# Altium integrated library TI Amplifiers and Linear Operational Amplifier High Speed.IntLib: 1100 symbols (part 9 of 44)
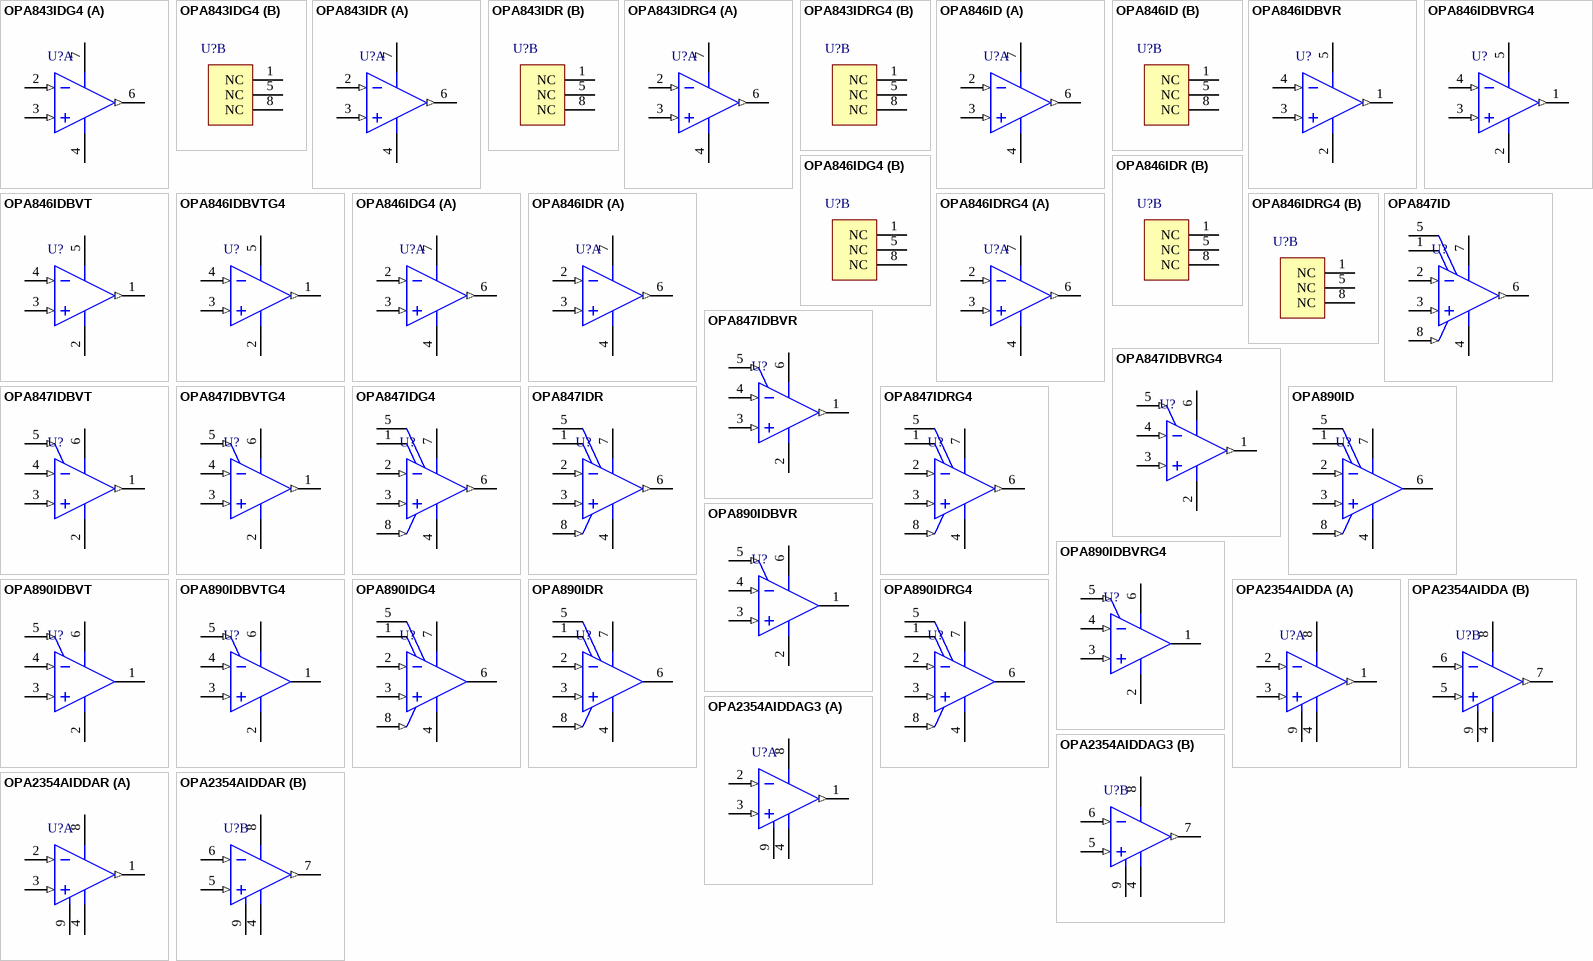
[diagram p59: symbols OPA843IDG4 to OPA2354AIDDAR]

## OPA2354AIDDAG3
designator U?
250 MHz, Rail-to-Rail I/O, CMOS Dual Operational Amplifier, 2.7 to 5.5 V, -40 to 125 degC, 8-pin SOP (DDA8), Green (RoHS & no Sb/Br); Manufacturer: Texas Instruments; PartNumber: OPA2354AIDDAG3; 2nd Harmonic(dBc): 75; 3rd Harmonic(dBc): 83; @ MHz: 1; BW @ Acl(MHz): 250; Diff Gain(%): 0.02; Diff Phase(deg): 0.09; Iib(Max)(nA): 0.05; Io(Typ)(mA): 100; Iq per channel(Max)(mA): 7.5; Number of Channels: 2; Rail-Rail: In, Out; Settling Time (0.1%)(Typ)(ns): 30; Slew Rate(Typ)(V/us): 150; Sub Family: High Output Current Amplifier (>=50mA), High Speed Amplifier (>=50MHz), Low Supply Voltage Amplifier (<=2.7V); THD (Fc is 1 MHz)(Typ)(dB): -73; Vio(Max)(mV): 8; Vn at Flatband(Typ)(nV/rtHz): 6.5; Vs(Max)(V): 5.5; Vs(Min)(V): 2.7; DatasheetVersion: SBOS233E; PackageVersion: 4202561/F, 12/2011; PackageReference: DDA8-1775X1775TP; PackageDescription: 8-Pin PowerPAD(TM) Plastic Small Outline, Body 4.9 x 3.9 mm, Pitch 1.27 mm; Supplier 1: Digi-Key; Supplier Part Number 1: OPA2354AIDDAG3-ND; Supplier 2: Mouser; Supplier Part Number 2: 595-OPA2354AIDDAG3; Acl, min stable gain(V/V): 1; Eco-Plan: Green (RoHS & no Sb/Br); Mounting Technology: Surface Mount; Code_JEDEC: MS-012; ComponentLink1Description: Manufacturer URL; ComponentLink1URL: http://www.ti.com/; ComponentLink2Description: Datasheet; ComponentLink2URL: http://www.ti.com/general/docs/lit/getliterature.tsp?genericPartNumber=OPA2354&fileType=pdf; ComponentLink3Description: Package Specification; ComponentLink3URL: http://www.ti.com/litv/pdf/mpds092e
footprint TI-DDA8-1775X1775TP_N (SOP, 8-Leads, Body 4.9x3.9mm, Pitch 1.27mm, Thermal Pad 1.775x1.775mm, IPC Medium Density)
footprint TI-DDA8-1775X1775TP_L (SOP, 8-Leads, Body 4.9x3.9mm, Pitch 1.27mm, Thermal Pad 1.775x1.775mm, IPC High Density)
footprint TI-DDA8-1775X1775TP_M (SOP, 8-Leads, Body 4.9x3.9mm, Pitch 1.27mm, Thermal Pad 1.775x1.775mm, IPC Low Density)
pins on every part: 4 V- (power), 8 V+ (power), 9 EP (power)
part A pins: 1 OUT A (out), 2 IN A- (in), 3 IN A+ (in)
part B pins: 5 IN B+ (in), 6 IN B- (in), 7 OUT B (out)

## OPA2354AIDDAR
designator U?
250 MHz, Rail-to-Rail I/O, CMOS Dual Operational Amplifier, 2.7 to 5.5 V, -40 to 125 degC, 8-pin SOP (DDA8), Green (RoHS & no Sb/Br); Manufacturer: Texas Instruments; PartNumber: OPA2354AIDDAR; 2nd Harmonic(dBc): 75; 3rd Harmonic(dBc): 83; @ MHz: 1; BW @ Acl(MHz): 250; Diff Gain(%): 0.02; Diff Phase(deg): 0.09; Iib(Max)(nA): 0.05; Io(Typ)(mA): 100; Iq per channel(Max)(mA): 7.5; Number of Channels: 2; Rail-Rail: In, Out; Settling Time (0.1%)(Typ)(ns): 30; Slew Rate(Typ)(V/us): 150; Sub Family: High Output Current Amplifier (>=50mA), High Speed Amplifier (>=50MHz), Low Supply Voltage Amplifier (<=2.7V); THD (Fc is 1 MHz)(Typ)(dB): -73; Vio(Max)(mV): 8; Vn at Flatband(Typ)(nV/rtHz): 6.5; Vs(Max)(V): 5.5; Vs(Min)(V): 2.7; DatasheetVersion: SBOS233E; PackageVersion: 4202561/F, 12/2011; PackageReference: DDA8-1775X1775TP; PackageDescription: 8-Pin PowerPAD(TM) Plastic Small Outline, Body 4.9 x 3.9 mm, Pitch 1.27 mm; Supplier 1: Digi-Key; Supplier Part Number 1: OPA2354AIDDAR-ND; Supplier 2: Mouser; Supplier Part Number 2: 595-OPA2354AIDDAR; Acl, min stable gain(V/V): 1; Eco-Plan: Green (RoHS & no Sb/Br); Mounting Technology: Surface Mount; Code_JEDEC: MS-012; ComponentLink1Description: Manufacturer URL; ComponentLink1URL: http://www.ti.com/; ComponentLink2Description: Datasheet; ComponentLink2URL: http://www.ti.com/general/docs/lit/getliterature.tsp?genericPartNumber=OPA2354&fileType=pdf; ComponentLink3Description: Package Specification; ComponentLink3URL: http://www.ti.com/litv/pdf/mpds092e
footprint TI-DDA8-1775X1775TP_N (SOP, 8-Leads, Body 4.9x3.9mm, Pitch 1.27mm, Thermal Pad 1.775x1.775mm, IPC Medium Density)
footprint TI-DDA8-1775X1775TP_L (SOP, 8-Leads, Body 4.9x3.9mm, Pitch 1.27mm, Thermal Pad 1.775x1.775mm, IPC High Density)
footprint TI-DDA8-1775X1775TP_M (SOP, 8-Leads, Body 4.9x3.9mm, Pitch 1.27mm, Thermal Pad 1.775x1.775mm, IPC Low Density)
pins on every part: 4 V- (power), 8 V+ (power), 9 EP (power)
part A pins: 1 OUT A (out), 2 IN A- (in), 3 IN A+ (in)
part B pins: 5 IN B+ (in), 6 IN B- (in), 7 OUT B (out)

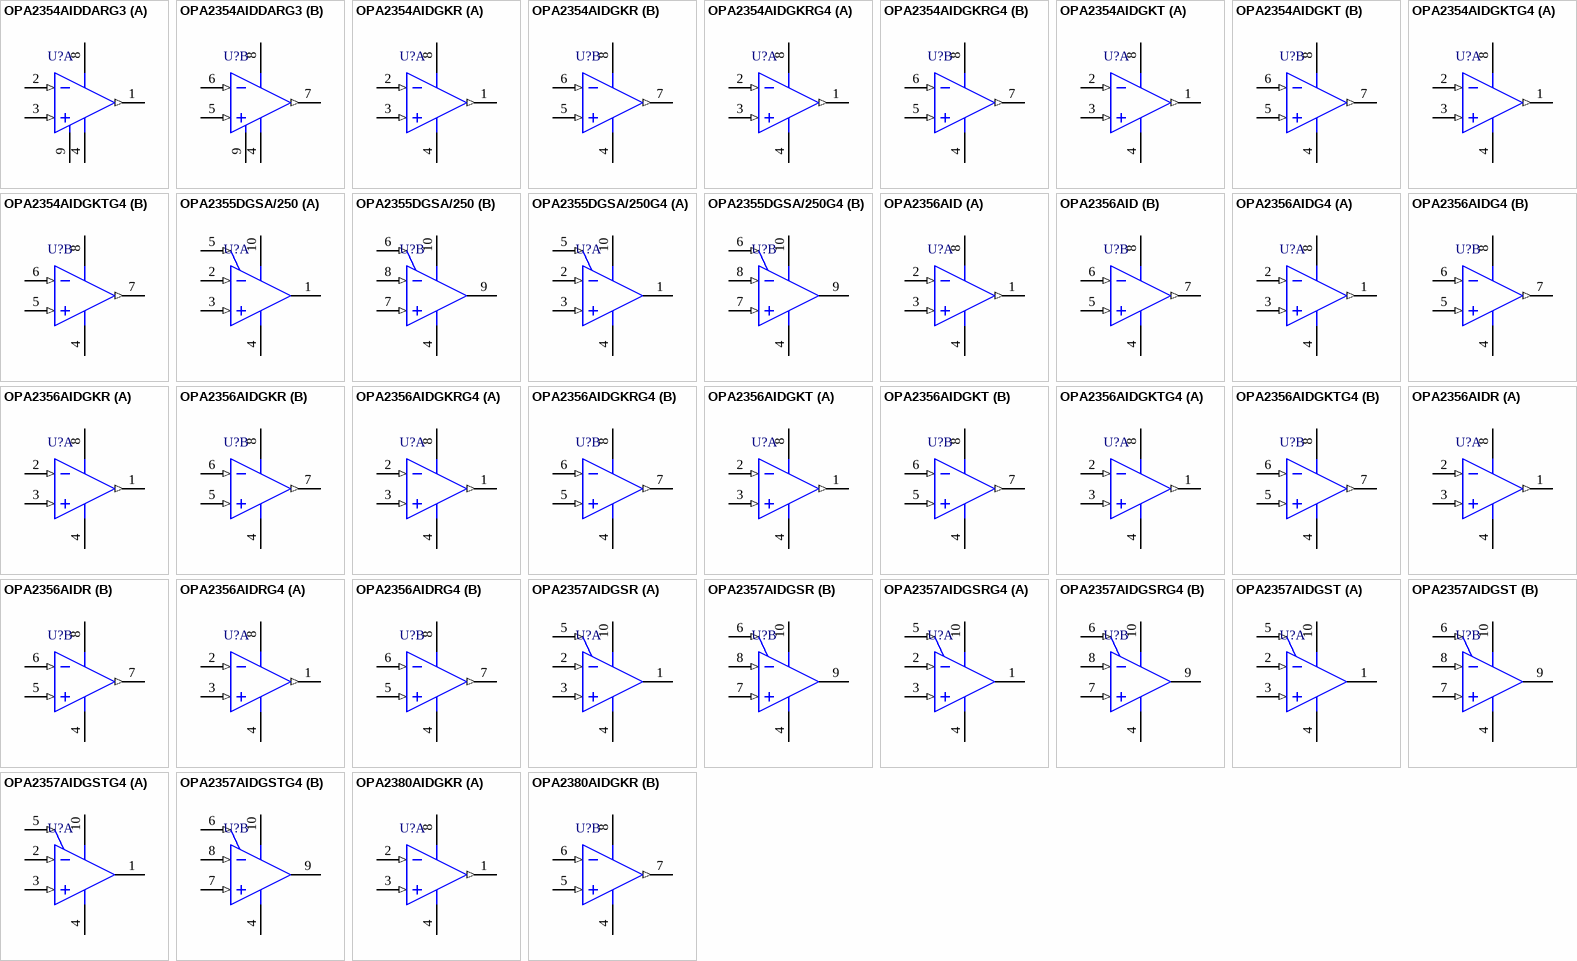
[diagram p7: symbols OPA2354AIDDARG3 to OPA2380AIDGKR]

## OPA2354AIDDARG3
designator U?
250 MHz, Rail-to-Rail I/O, CMOS Dual Operational Amplifier, 2.7 to 5.5 V, -40 to 125 degC, 8-pin SOP (DDA8), Green (RoHS & no Sb/Br); Manufacturer: Texas Instruments; PartNumber: OPA2354AIDDARG3; 2nd Harmonic(dBc): 75; 3rd Harmonic(dBc): 83; @ MHz: 1; BW @ Acl(MHz): 250; Diff Gain(%): 0.02; Diff Phase(deg): 0.09; Iib(Max)(nA): 0.05; Io(Typ)(mA): 100; Iq per channel(Max)(mA): 7.5; Number of Channels: 2; Rail-Rail: In, Out; Settling Time (0.1%)(Typ)(ns): 30; Slew Rate(Typ)(V/us): 150; Sub Family: High Output Current Amplifier (>=50mA), High Speed Amplifier (>=50MHz), Low Supply Voltage Amplifier (<=2.7V); THD (Fc is 1 MHz)(Typ)(dB): -73; Vio(Max)(mV): 8; Vn at Flatband(Typ)(nV/rtHz): 6.5; Vs(Max)(V): 5.5; Vs(Min)(V): 2.7; DatasheetVersion: SBOS233E; PackageVersion: 4202561/F, 12/2011; PackageReference: DDA8-1775X1775TP; PackageDescription: 8-Pin PowerPAD(TM) Plastic Small Outline, Body 4.9 x 3.9 mm, Pitch 1.27 mm; Supplier 1: Digi-Key; Supplier Part Number 1: OPA2354AIDDARG3-ND; Supplier 2: Mouser; Supplier Part Number 2: 595-OPA2354AIDDARG3; Acl, min stable gain(V/V): 1; Eco-Plan: Green (RoHS & no Sb/Br); Mounting Technology: Surface Mount; Code_JEDEC: MS-012; ComponentLink1Description: Manufacturer URL; ComponentLink1URL: http://www.ti.com/; ComponentLink2Description: Datasheet; ComponentLink2URL: http://www.ti.com/general/docs/lit/getliterature.tsp?genericPartNumber=OPA2354&fileType=pdf; ComponentLink3Description: Package Specification; ComponentLink3URL: http://www.ti.com/litv/pdf/mpds092e
footprint TI-DDA8-1775X1775TP_N (SOP, 8-Leads, Body 4.9x3.9mm, Pitch 1.27mm, Thermal Pad 1.775x1.775mm, IPC Medium Density)
footprint TI-DDA8-1775X1775TP_L (SOP, 8-Leads, Body 4.9x3.9mm, Pitch 1.27mm, Thermal Pad 1.775x1.775mm, IPC High Density)
footprint TI-DDA8-1775X1775TP_M (SOP, 8-Leads, Body 4.9x3.9mm, Pitch 1.27mm, Thermal Pad 1.775x1.775mm, IPC Low Density)
pins on every part: 4 V- (power), 8 V+ (power), 9 EP (power)
part A pins: 1 OUT A (out), 2 IN A- (in), 3 IN A+ (in)
part B pins: 5 IN B+ (in), 6 IN B- (in), 7 OUT B (out)

## OPA2354AIDGKR
designator U?
250 MHz, Rail-to-Rail I/O, CMOS Dual Operational Amplifier, 2.7 to 5.5 V, -40 to 125 degC, 8-pin SOP (DGK8), Green (RoHS & no Sb/Br); Manufacturer: Texas Instruments; PartNumber: OPA2354AIDGKR; 2nd Harmonic(dBc): 75; 3rd Harmonic(dBc): 83; @ MHz: 1; BW @ Acl(MHz): 250; Diff Gain(%): 0.02; Diff Phase(deg): 0.09; Iib(Max)(nA): 0.05; Io(Typ)(mA): 100; Iq per channel(Max)(mA): 7.5; Number of Channels: 2; Rail-Rail: In, Out; Settling Time (0.1%)(Typ)(ns): 30; Slew Rate(Typ)(V/us): 150; Sub Family: High Output Current Amplifier (>=50mA), High Speed Amplifier (>=50MHz), Low Supply Voltage Amplifier (<=2.7V); THD (Fc is 1 MHz)(Typ)(dB): -73; Vio(Max)(mV): 8; Vn at Flatband(Typ)(nV/rtHz): 6.5; Vs(Max)(V): 5.5; Vs(Min)(V): 2.7; DatasheetVersion: SBOS233E; PackageVersion: 4073329/E, 05/2006; PackageReference: DGK8; PackageDescription: 8-Pin Thin Small Outline, Body 3 x 3 mm, Pitch 0.65 mm; Supplier 1: Digi-Key; Supplier Part Number 1: 296-12642-2-ND; Supplier 2: Digi-Key; Supplier Part Number 2: 296-12642-1-ND; Supplier 3: Digi-Key; Supplier Part Number 3: 296-12642-6-ND; Supplier 4: Newark; Supplier Part Number 4: 86W6062; Supplier 5: Newark; Supplier Part Number 5: 75C4736; Supplier 6: Mouser; Supplier Part Number 6: 595-OPA2354AIDGKR; Acl, min stable gain(V/V): 1; Eco-Plan: Green (RoHS & no Sb/Br); Mounting Technology: Surface Mount; Code_JEDEC: MO-187; ComponentLink1Description: Manufacturer URL; ComponentLink1URL: http://www.ti.com/; ComponentLink2Description: Datasheet; ComponentLink2URL: http://www.ti.com/general/docs/lit/getliterature.tsp?genericPartNumber=OPA2354&fileType=pdf; ComponentLink3Description: Package Specification; ComponentLink3URL: http://www.ti.com/litv/pdf/mpds028d
footprint TI-DGK8_N (SOP, 8-Leads, Body 3x3mm, Pitch 0.65mm, IPC Medium Density)
footprint TI-DGK8_L (SOP, 8-Leads, Body 3x3mm, Pitch 0.65mm, IPC High Density)
footprint TI-DGK8_M (SOP, 8-Leads, Body 3x3mm, Pitch 0.65mm, IPC Low Density)
pins on every part: 4 V- (power), 8 V+ (power)
part A pins: 1 OUT A (out), 2 IN A- (in), 3 IN A+ (in)
part B pins: 5 IN B+ (in), 6 IN B- (in), 7 OUT B (out)

## OPA2354AIDGKRG4
designator U?
250 MHz, Rail-to-Rail I/O, CMOS Dual Operational Amplifier, 2.7 to 5.5 V, -40 to 125 degC, 8-pin SOP (DGK8), Green (RoHS & no Sb/Br); Manufacturer: Texas Instruments; PartNumber: OPA2354AIDGKRG4; 2nd Harmonic(dBc): 75; 3rd Harmonic(dBc): 83; @ MHz: 1; BW @ Acl(MHz): 250; Diff Gain(%): 0.02; Diff Phase(deg): 0.09; Iib(Max)(nA): 0.05; Io(Typ)(mA): 100; Iq per channel(Max)(mA): 7.5; Number of Channels: 2; Rail-Rail: In, Out; Settling Time (0.1%)(Typ)(ns): 30; Slew Rate(Typ)(V/us): 150; Sub Family: High Output Current Amplifier (>=50mA), High Speed Amplifier (>=50MHz), Low Supply Voltage Amplifier (<=2.7V); THD (Fc is 1 MHz)(Typ)(dB): -73; Vio(Max)(mV): 8; Vn at Flatband(Typ)(nV/rtHz): 6.5; Vs(Max)(V): 5.5; Vs(Min)(V): 2.7; DatasheetVersion: SBOS233E; PackageVersion: 4073329/E, 05/2006; PackageReference: DGK8; PackageDescription: 8-Pin Thin Small Outline, Body 3 x 3 mm, Pitch 0.65 mm; Supplier 1: Digi-Key; Supplier Part Number 1: OPA2354AIDGKRG4-ND; Supplier 2: Mouser; Supplier Part Number 2: 595-OPA2354AIDGKRG4; Acl, min stable gain(V/V): 1; Eco-Plan: Green (RoHS & no Sb/Br); Mounting Technology: Surface Mount; Code_JEDEC: MO-187; ComponentLink1Description: Manufacturer URL; ComponentLink1URL: http://www.ti.com/; ComponentLink2Description: Datasheet; ComponentLink2URL: http://www.ti.com/general/docs/lit/getliterature.tsp?genericPartNumber=OPA2354&fileType=pdf; ComponentLink3Description: Package Specification; ComponentLink3URL: http://www.ti.com/litv/pdf/mpds028d
footprint TI-DGK8_N (SOP, 8-Leads, Body 3x3mm, Pitch 0.65mm, IPC Medium Density)
footprint TI-DGK8_L (SOP, 8-Leads, Body 3x3mm, Pitch 0.65mm, IPC High Density)
footprint TI-DGK8_M (SOP, 8-Leads, Body 3x3mm, Pitch 0.65mm, IPC Low Density)
pins on every part: 4 V- (power), 8 V+ (power)
part A pins: 1 OUT A (out), 2 IN A- (in), 3 IN A+ (in)
part B pins: 5 IN B+ (in), 6 IN B- (in), 7 OUT B (out)

## OPA2354AIDGKT
designator U?
250 MHz, Rail-to-Rail I/O, CMOS Dual Operational Amplifier, 2.7 to 5.5 V, -40 to 125 degC, 8-pin SOP (DGK8), Green (RoHS & no Sb/Br); Manufacturer: Texas Instruments; PartNumber: OPA2354AIDGKT; 2nd Harmonic(dBc): 75; 3rd Harmonic(dBc): 83; @ MHz: 1; BW @ Acl(MHz): 250; Diff Gain(%): 0.02; Diff Phase(deg): 0.09; Iib(Max)(nA): 0.05; Io(Typ)(mA): 100; Iq per channel(Max)(mA): 7.5; Number of Channels: 2; Rail-Rail: In, Out; Settling Time (0.1%)(Typ)(ns): 30; Slew Rate(Typ)(V/us): 150; Sub Family: High Output Current Amplifier (>=50mA), High Speed Amplifier (>=50MHz), Low Supply Voltage Amplifier (<=2.7V); THD (Fc is 1 MHz)(Typ)(dB): -73; Vio(Max)(mV): 8; Vn at Flatband(Typ)(nV/rtHz): 6.5; Vs(Max)(V): 5.5; Vs(Min)(V): 2.7; DatasheetVersion: SBOS233E; PackageVersion: 4073329/E, 05/2006; PackageReference: DGK8; PackageDescription: 8-Pin Thin Small Outline, Body 3 x 3 mm, Pitch 0.65 mm; Supplier 1: Digi-Key; Supplier Part Number 1: 296-26260-2-ND; Supplier 2: Digi-Key; Supplier Part Number 2: 296-26260-1-ND; Supplier 3: Digi-Key; Supplier Part Number 3: 296-26260-6-ND; Supplier 4: Farnell; Supplier Part Number 4: 2075433; Supplier 5: Newark; Supplier Part Number 5: 82T3133; Supplier 6: Newark; Supplier Part Number 6: 75C4737; Supplier 7: Mouser; Supplier Part Number 7: 595-OPA2354AIDGKT; Acl, min stable gain(V/V): 1; Eco-Plan: Green (RoHS & no Sb/Br); Mounting Technology: Surface Mount; Code_JEDEC: MO-187; ComponentLink1Description: Manufacturer URL; ComponentLink1URL: http://www.ti.com/; ComponentLink2Description: Datasheet; ComponentLink2URL: http://www.ti.com/general/docs/lit/getliterature.tsp?genericPartNumber=OPA2354&fileType=pdf; ComponentLink3Description: Package Specification; ComponentLink3URL: http://www.ti.com/litv/pdf/mpds028d
footprint TI-DGK8_N (SOP, 8-Leads, Body 3x3mm, Pitch 0.65mm, IPC Medium Density)
footprint TI-DGK8_L (SOP, 8-Leads, Body 3x3mm, Pitch 0.65mm, IPC High Density)
footprint TI-DGK8_M (SOP, 8-Leads, Body 3x3mm, Pitch 0.65mm, IPC Low Density)
pins on every part: 4 V- (power), 8 V+ (power)
part A pins: 1 OUT A (out), 2 IN A- (in), 3 IN A+ (in)
part B pins: 5 IN B+ (in), 6 IN B- (in), 7 OUT B (out)

## OPA2354AIDGKTG4
designator U?
250 MHz, Rail-to-Rail I/O, CMOS Dual Operational Amplifier, 2.7 to 5.5 V, -40 to 125 degC, 8-pin SOP (DGK8), Green (RoHS & no Sb/Br); Manufacturer: Texas Instruments; PartNumber: OPA2354AIDGKTG4; 2nd Harmonic(dBc): 75; 3rd Harmonic(dBc): 83; @ MHz: 1; BW @ Acl(MHz): 250; Diff Gain(%): 0.02; Diff Phase(deg): 0.09; Iib(Max)(nA): 0.05; Io(Typ)(mA): 100; Iq per channel(Max)(mA): 7.5; Number of Channels: 2; Rail-Rail: In, Out; Settling Time (0.1%)(Typ)(ns): 30; Slew Rate(Typ)(V/us): 150; Sub Family: High Output Current Amplifier (>=50mA), High Speed Amplifier (>=50MHz), Low Supply Voltage Amplifier (<=2.7V); THD (Fc is 1 MHz)(Typ)(dB): -73; Vio(Max)(mV): 10; Vn at Flatband(Typ)(nV/rtHz): 6.5; Vs(Max)(V): 5.5; Vs(Min)(V): 2.7; DatasheetVersion: SBOS233E; PackageVersion: 4073329/E, 05/2006; PackageReference: DGK8; PackageDescription: 8-Pin Thin Small Outline, Body 3 x 3 mm, Pitch 0.65 mm; Supplier 1: Digi-Key; Supplier Part Number 1: OPA2354AIDGKTG4-ND; Supplier 2: Mouser; Supplier Part Number 2: 595-OPA2354AIDGKTG4; Acl, min stable gain(V/V): 1; Eco-Plan: Green (RoHS & no Sb/Br); Mounting Technology: Surface Mount; Code_JEDEC: MO-187; ComponentLink1Description: Manufacturer URL; ComponentLink1URL: http://www.ti.com/; ComponentLink2Description: Datasheet; ComponentLink2URL: http://www.ti.com/general/docs/lit/getliterature.tsp?genericPartNumber=OPA2354&fileType=pdf; ComponentLink3Description: Package Specification; ComponentLink3URL: http://www.ti.com/litv/pdf/mpds028d
footprint TI-DGK8_N (SOP, 8-Leads, Body 3x3mm, Pitch 0.65mm, IPC Medium Density)
footprint TI-DGK8_L (SOP, 8-Leads, Body 3x3mm, Pitch 0.65mm, IPC High Density)
footprint TI-DGK8_M (SOP, 8-Leads, Body 3x3mm, Pitch 0.65mm, IPC Low Density)
pins on every part: 4 V- (power), 8 V+ (power)
part A pins: 1 OUT A (out), 2 IN A- (in), 3 IN A+ (in)
part B pins: 5 IN B+ (in), 6 IN B- (in), 7 OUT B (out)

## OPA2355DGSA/250
designator U?
200 MHz GBW, CMOS Dual Operational Amplifier, 2.7 to 5.5 V, -40 to 125 degC, 10-pin SOP (DGS10), Green (RoHS & no Sb/Br); Manufacturer: Texas Instruments; PartNumber: OPA2355DGSA/250; 2nd Harmonic(dBc): 81; 3rd Harmonic(dBc): 93; @ MHz: 1; BW @ Acl(MHz): 450; Diff Gain(%): 0.02; Diff Phase(deg): 0.05; Io(Typ)(mA): 100; Iq per channel(Max)(mA): 14; Number of Channels: 2; Rail-Rail: Out; Settling Time (0.1%)(Typ)(ns): 30; Slew Rate(Typ)(V/us): 360; Sub Family: High Output Current Amplifier (>=50mA), High Speed Amplifier (>=50MHz), Low Supply Voltage Amplifier (<=2.7V); THD (Fc is 1 MHz)(Typ)(dB): -79; Vn at Flatband(Typ)(nV/rtHz): 5.8; Vs(Max)(V): 5.5; Vs(Min)(V): 2.7; DatasheetVersion: SBOS195D; PackageVersion: 4073272/C, 02/2004; PackageReference: DGS10; PackageDescription: 10-Pin Plastic Small Outline, Body 3 x 3 mm, Pitch 0.5 mm; Supplier 1: Digi-Key; Supplier Part Number 1: 296-12132-2-ND; Supplier 2: Digi-Key; Supplier Part Number 2: 296-12132-1-ND; Supplier 3: Digi-Key; Supplier Part Number 3: 296-12132-6-ND; Supplier 4: Newark; Supplier Part Number 4: 75C4739; Supplier 5: Mouser; Supplier Part Number 5: 595-OPA2355DGSA/250; Acl, min stable gain(V/V): 1; Eco-Plan: Green (RoHS & no Sb/Br); Iib(Max)(nA): 0.05; Vio(Max)(mV): 2; Mounting Technology: Surface Mount; Code_JEDEC: MO-153; ComponentLink1Description: Manufacturer URL; ComponentLink1URL: http://www.ti.com/; ComponentLink2Description: Datasheet; ComponentLink2URL: http://www.ti.com/general/docs/lit/getliterature.tsp?genericPartNumber=OPA2355&fileType=pdf; ComponentLink3Description: Package Specification; ComponentLink3URL: http://www.ti.com/lit/ml/mpds035b/mpds035b.pdf
footprint TI-DGS10_N (SOP, 10-Leads, Body 3x3mm, Pitch 0.5mm, IPC Medium Density)
footprint TI-DGS10_L (SOP, 10-Leads, Body 3x3mm, Pitch 0.5mm, IPC High Density)
footprint TI-DGS10_M (SOP, 10-Leads, Body 3x3mm, Pitch 0.5mm, IPC Low Density)
pins on every part: 4 V- (power), 10 V+ (power)
part A pins: 1 OUT A (hiz), 2 IN A- (in), 3 IN A+ (in), 5 ENABLE A (in)
part B pins: 6 ENABLE B (in), 7 IN B+ (in), 8 IN B- (in), 9 OUT B (hiz)

## OPA2355DGSA/250G4
designator U?
200 MHz GBW, CMOS Dual Operational Amplifier, 2.7 to 5.5 V, -40 to 125 degC, 10-pin SOP (DGS10), Green (RoHS & no Sb/Br); Manufacturer: Texas Instruments; PartNumber: OPA2355DGSA/250G4; 2nd Harmonic(dBc): 81; 3rd Harmonic(dBc): 93; @ MHz: 1; BW @ Acl(MHz): 450; Diff Gain(%): 0.02; Diff Phase(deg): 0.05; Io(Typ)(mA): 100; Iq per channel(Max)(mA): 14; Number of Channels: 2; Rail-Rail: In, Out; Settling Time (0.1%)(Typ)(ns): 30; Slew Rate(Typ)(V/us): 360; Sub Family: High Output Current Amplifier (>=50mA), High Speed Amplifier (>=50MHz), Low Supply Voltage Amplifier (<=2.7V); THD (Fc is 1 MHz)(Typ)(dB): -79; Vio(Max)(mV): 15; Vn at Flatband(Typ)(nV/rtHz): 5.8; Vs(Max)(V): 5.5; Vs(Min)(V): 2.7; DatasheetVersion: SBOS195D; PackageVersion: 4073272/C, 02/2004; PackageReference: DGS10; PackageDescription: 10-Pin Plastic Small Outline, Body 3 x 3 mm, Pitch 0.5 mm; Supplier 1: Digi-Key; Supplier Part Number 1: OPA2355DGSA/250G4-ND; Supplier 2: Mouser; Supplier Part Number 2: 595-OPA2355DGSA/250G; Acl, min stable gain(V/V): 1; Eco-Plan: Green (RoHS & no Sb/Br); Iib(Max)(nA): 0.05; Mounting Technology: Surface Mount; Code_JEDEC: MO-153; ComponentLink1Description: Manufacturer URL; ComponentLink1URL: http://www.ti.com/; ComponentLink2Description: Datasheet; ComponentLink2URL: http://www.ti.com/general/docs/lit/getliterature.tsp?genericPartNumber=OPA2355&fileType=pdf; ComponentLink3Description: Package Specification; ComponentLink3URL: http://www.ti.com/lit/ml/mpds035b/mpds035b.pdf
footprint TI-DGS10_N (SOP, 10-Leads, Body 3x3mm, Pitch 0.5mm, IPC Medium Density)
footprint TI-DGS10_L (SOP, 10-Leads, Body 3x3mm, Pitch 0.5mm, IPC High Density)
footprint TI-DGS10_M (SOP, 10-Leads, Body 3x3mm, Pitch 0.5mm, IPC Low Density)
pins on every part: 4 V- (power), 10 V+ (power)
part A pins: 1 OUT A (hiz), 2 IN A- (in), 3 IN A+ (in), 5 ENABLE A (in)
part B pins: 6 ENABLE B (in), 7 IN B+ (in), 8 IN B- (in), 9 OUT B (hiz)

## OPA2356AID
designator U?
200 MHz GBW, CMOS Dual Operational Amplifier, 2.5 to 5.5 V, -40 to 125 degC, 8-pin SOIC (D8), Green (RoHS & no Sb/Br); Manufacturer: Texas Instruments; PartNumber: OPA2356AID; 2nd Harmonic(dBc): 81; 3rd Harmonic(dBc): 93; @ MHz: 1; BW @ Acl(MHz): 450; Diff Gain(%): 0.02; Diff Phase(deg): 0.05; Io(Typ)(mA): 100; Iq per channel(Max)(mA): 14; Number of Channels: 2; Rail-Rail: Out; Settling Time (0.1%)(Typ)(ns): 30; Slew Rate(Typ)(V/us): 360; Sub Family: High Output Current Amplifier (>=50mA), High Speed Amplifier (>=50MHz), Low Supply Voltage Amplifier (<=2.7V); THD (Fc is 1 MHz)(Typ)(dB): -79; Vio(Max)(mV): 9; Vn at Flatband(Typ)(nV/rtHz): 5.8; Vs(Max)(V): 5.5; Vs(Min)(V): 2.5; DatasheetVersion: SBOS212A; PackageVersion: 4040047-3/M, 06/2011; PackageReference: D8; PackageDescription: 8-Pin Plastic Small Outline, Body 4.9 x 3.9 mm, Pitch 1.27 mm; Supplier 1: Digi-Key; Supplier Part Number 1: 296-12406-5-ND; Supplier 2: Farnell; Supplier Part Number 2: 1212445; Supplier 3: Newark; Supplier Part Number 3: 75C4740; Supplier 4: Mouser; Supplier Part Number 4: 595-OPA2356AID; Acl, min stable gain(V/V): 1; Eco-Plan: Green (RoHS & no Sb/Br); Iib(Max)(nA): 0.05; Mounting Technology: Surface Mount; Code_JEDEC: MS-012; ComponentLink1Description: Manufacturer URL; ComponentLink1URL: http://www.ti.com/; ComponentLink2Description: Datasheet; ComponentLink2URL: http://www.ti.com/general/docs/lit/getliterature.tsp?genericPartNumber=OPA2356&fileType=pdf; ComponentLink3Description: Package Specification; ComponentLink3URL: http://www.ti.com/litv/pdf/msoi002j
footprint TI-D8_N (SOIC, 8-Leads, Body 4.9x3.9mm, Pitch 1.27mm, IPC Medium Density)
footprint TI-D8_L (SOIC, 8-Leads, Body 4.9x3.9mm, Pitch 1.27mm, IPC High Density)
footprint TI-D8_M (SOIC, 8-Leads, Body 4.9x3.9mm, Pitch 1.27mm, IPC Low Density)
pins on every part: 4 V- (power), 8 V+ (power)
part A pins: 1 OUT A (out), 2 IN A- (in), 3 IN A+ (in)
part B pins: 5 IN B+ (in), 6 IN B- (in), 7 OUT B (out)

## OPA2356AIDG4
designator U?
200 MHz GBW, CMOS Dual Operational Amplifier, 2.5 to 5.5 V, -40 to 125 degC, 8-pin SOIC (D8), Green (RoHS & no Sb/Br); Manufacturer: Texas Instruments; PartNumber: OPA2356AIDG4; 2nd Harmonic(dBc): 81; 3rd Harmonic(dBc): 93; @ MHz: 1; BW @ Acl(MHz): 450; Diff Gain(%): 0.02; Diff Phase(deg): 0.05; Io(Typ)(mA): 100; Iq per channel(Max)(mA): 14; Number of Channels: 2; Rail-Rail: Out; Settling Time (0.1%)(Typ)(ns): 30; Slew Rate(Typ)(V/us): 360; Sub Family: High Output Current Amplifier (>=50mA), High Speed Amplifier (>=50MHz), Low Supply Voltage Amplifier (<=2.7V); THD (Fc is 1 MHz)(Typ)(dB): -79; Vio(Max)(mV): 9; Vn at Flatband(Typ)(nV/rtHz): 5.8; Vs(Max)(V): 5.5; Vs(Min)(V): 2.5; DatasheetVersion: SBOS212A; PackageVersion: 4040047-3/M, 06/2011; PackageReference: D8; PackageDescription: 8-Pin Plastic Small Outline, Body 4.9 x 3.9 mm, Pitch 1.27 mm; Supplier 1: Digi-Key; Supplier Part Number 1: OPA2356AIDG4-ND; Supplier 2: Newark; Supplier Part Number 2: 06M7530; Supplier 3: Mouser; Supplier Part Number 3: 595-OPA2356AIDG4; Acl, min stable gain(V/V): 1; Eco-Plan: Green (RoHS & no Sb/Br); Iib(Max)(nA): 0.05; Mounting Technology: Surface Mount; Code_JEDEC: MS-012; ComponentLink1Description: Manufacturer URL; ComponentLink1URL: http://www.ti.com/; ComponentLink2Description: Datasheet; ComponentLink2URL: http://www.ti.com/general/docs/lit/getliterature.tsp?genericPartNumber=OPA2356&fileType=pdf; ComponentLink3Description: Package Specification; ComponentLink3URL: http://www.ti.com/litv/pdf/msoi002j
footprint TI-D8_N (SOIC, 8-Leads, Body 4.9x3.9mm, Pitch 1.27mm, IPC Medium Density)
footprint TI-D8_L (SOIC, 8-Leads, Body 4.9x3.9mm, Pitch 1.27mm, IPC High Density)
footprint TI-D8_M (SOIC, 8-Leads, Body 4.9x3.9mm, Pitch 1.27mm, IPC Low Density)
pins on every part: 4 V- (power), 8 V+ (power)
part A pins: 1 OUT A (out), 2 IN A- (in), 3 IN A+ (in)
part B pins: 5 IN B+ (in), 6 IN B- (in), 7 OUT B (out)

## OPA2356AIDGKR
designator U?
200 MHz GBW, CMOS Dual Operational Amplifier, 2.5 to 5.5 V, -40 to 125 degC, 8-pin SOP (DGK8), Green (RoHS & no Sb/Br); Manufacturer: Texas Instruments; PartNumber: OPA2356AIDGKR; 2nd Harmonic(dBc): 81; 3rd Harmonic(dBc): 93; @ MHz: 1; BW @ Acl(MHz): 450; Diff Gain(%): 0.02; Diff Phase(deg): 0.05; Io(Typ)(mA): 100; Iq per channel(Max)(mA): 14; Number of Channels: 2; Rail-Rail: Out; Settling Time (0.1%)(Typ)(ns): 30; Slew Rate(Typ)(V/us): 360; Sub Family: High Output Current Amplifier (>=50mA), High Speed Amplifier (>=50MHz), Low Supply Voltage Amplifier (<=2.7V); THD (Fc is 1 MHz)(Typ)(dB): -79; Vio(Max)(mV): 9; Vn at Flatband(Typ)(nV/rtHz): 5.8; Vs(Max)(V): 5.5; Vs(Min)(V): 2.5; DatasheetVersion: SBOS212A; PackageVersion: 4073329/E, 05/2006; PackageReference: DGK8; PackageDescription: 8-Pin Thin Small Outline, Body 3 x 3 mm, Pitch 0.65 mm; Supplier 1: Digi-Key; Supplier Part Number 1: 296-31702-2-ND; Supplier 2: Digi-Key; Supplier Part Number 2: 296-31702-1-ND; Supplier 3: Digi-Key; Supplier Part Number 3: 296-31702-6-ND; Supplier 4: Newark; Supplier Part Number 4: 75C4741; Supplier 5: Mouser; Supplier Part Number 5: 595-OPA2356AIDGKR; Acl, min stable gain(V/V): 1; Eco-Plan: Green (RoHS & no Sb/Br); Iib(Max)(nA): 0.05; Mounting Technology: Surface Mount; Code_JEDEC: MO-187; ComponentLink1Description: Manufacturer URL; ComponentLink1URL: http://www.ti.com/; ComponentLink2Description: Datasheet; ComponentLink2URL: http://www.ti.com/general/docs/lit/getliterature.tsp?genericPartNumber=OPA2356&fileType=pdf; ComponentLink3Description: Package Specification; ComponentLink3URL: http://www.ti.com/litv/pdf/mpds028d
footprint TI-DGK8_N (SOP, 8-Leads, Body 3x3mm, Pitch 0.65mm, IPC Medium Density)
footprint TI-DGK8_L (SOP, 8-Leads, Body 3x3mm, Pitch 0.65mm, IPC High Density)
footprint TI-DGK8_M (SOP, 8-Leads, Body 3x3mm, Pitch 0.65mm, IPC Low Density)
pins on every part: 4 V- (power), 8 V+ (power)
part A pins: 1 OUT A (out), 2 IN A- (in), 3 IN A+ (in)
part B pins: 5 IN B+ (in), 6 IN B- (in), 7 OUT B (out)

## OPA2356AIDGKRG4
designator U?
200 MHz GBW, CMOS Dual Operational Amplifier, 2.5 to 5.5 V, -40 to 125 degC, 8-pin SOP (DGK8), Green (RoHS & no Sb/Br); Manufacturer: Texas Instruments; PartNumber: OPA2356AIDGKRG4; 2nd Harmonic(dBc): 81; 3rd Harmonic(dBc): 93; @ MHz: 1; BW @ Acl(MHz): 450; Diff Gain(%): 0.02; Diff Phase(deg): 0.05; Io(Typ)(mA): 100; Iq per channel(Max)(mA): 14; Number of Channels: 2; Rail-Rail: Out; Settling Time (0.1%)(Typ)(ns): 30; Slew Rate(Typ)(V/us): 360; Sub Family: High Output Current Amplifier (>=50mA), High Speed Amplifier (>=50MHz), Low Supply Voltage Amplifier (<=2.7V); THD (Fc is 1 MHz)(Typ)(dB): -79; Vio(Max)(mV): 9; Vn at Flatband(Typ)(nV/rtHz): 5.8; Vs(Max)(V): 5.5; Vs(Min)(V): 2.5; DatasheetVersion: SBOS212A; PackageVersion: 4073329/E, 05/2006; PackageReference: DGK8; PackageDescription: 8-Pin Thin Small Outline, Body 3 x 3 mm, Pitch 0.65 mm; Supplier 1: Digi-Key; Supplier Part Number 1: OPA2356AIDGKRG4-ND; Supplier 2: Mouser; Supplier Part Number 2: 595-OPA2356AIDGKRG4; Acl, min stable gain(V/V): 1; Eco-Plan: Green (RoHS & no Sb/Br); Iib(Max)(nA): 0.05; Mounting Technology: Surface Mount; Code_JEDEC: MO-187; ComponentLink1Description: Manufacturer URL; ComponentLink1URL: http://www.ti.com/; ComponentLink2Description: Datasheet; ComponentLink2URL: http://www.ti.com/general/docs/lit/getliterature.tsp?genericPartNumber=OPA2356&fileType=pdf; ComponentLink3Description: Package Specification; ComponentLink3URL: http://www.ti.com/litv/pdf/mpds028d
footprint TI-DGK8_N (SOP, 8-Leads, Body 3x3mm, Pitch 0.65mm, IPC Medium Density)
footprint TI-DGK8_L (SOP, 8-Leads, Body 3x3mm, Pitch 0.65mm, IPC High Density)
footprint TI-DGK8_M (SOP, 8-Leads, Body 3x3mm, Pitch 0.65mm, IPC Low Density)
pins on every part: 4 V- (power), 8 V+ (power)
part A pins: 1 OUT A (out), 2 IN A- (in), 3 IN A+ (in)
part B pins: 5 IN B+ (in), 6 IN B- (in), 7 OUT B (out)

## OPA2356AIDGKT
designator U?
200 MHz GBW, CMOS Dual Operational Amplifier, 2.5 to 5.5 V, -40 to 125 degC, 8-pin SOP (DGK8), Green (RoHS & no Sb/Br); Manufacturer: Texas Instruments; PartNumber: OPA2356AIDGKT; 2nd Harmonic(dBc): 81; 3rd Harmonic(dBc): 93; @ MHz: 1; BW @ Acl(MHz): 450; Diff Gain(%): 0.02; Diff Phase(deg): 0.05; Io(Typ)(mA): 100; Iq per channel(Max)(mA): 14; Number of Channels: 2; Rail-Rail: Out; Settling Time (0.1%)(Typ)(ns): 30; Slew Rate(Typ)(V/us): 360; Sub Family: High Output Current Amplifier (>=50mA), High Speed Amplifier (>=50MHz), Low Supply Voltage Amplifier (<=2.7V); THD (Fc is 1 MHz)(Typ)(dB): -79; Vio(Max)(mV): 9; Vn at Flatband(Typ)(nV/rtHz): 5.8; Vs(Max)(V): 5.5; Vs(Min)(V): 2.5; DatasheetVersion: SBOS212A; PackageVersion: 4073329/E, 05/2006; PackageReference: DGK8; PackageDescription: 8-Pin Thin Small Outline, Body 3 x 3 mm, Pitch 0.65 mm; Supplier 1: Digi-Key; Supplier Part Number 1: 296-19954-2-ND; Supplier 2: Digi-Key; Supplier Part Number 2: 296-19954-1-ND; Supplier 3: Digi-Key; Supplier Part Number 3: 296-19954-6-ND; Supplier 4: Newark; Supplier Part Number 4: 75C4742; Supplier 5: Mouser; Supplier Part Number 5: 595-OPA2356AIDGKT; Acl, min stable gain(V/V): 1; Eco-Plan: Green (RoHS & no Sb/Br); Iib(Max)(nA): 0.05; Mounting Technology: Surface Mount; Code_JEDEC: MO-187; ComponentLink1Description: Manufacturer URL; ComponentLink1URL: http://www.ti.com/; ComponentLink2Description: Datasheet; ComponentLink2URL: http://www.ti.com/general/docs/lit/getliterature.tsp?genericPartNumber=OPA2356&fileType=pdf; ComponentLink3Description: Package Specification; ComponentLink3URL: http://www.ti.com/litv/pdf/mpds028d
footprint TI-DGK8_N (SOP, 8-Leads, Body 3x3mm, Pitch 0.65mm, IPC Medium Density)
footprint TI-DGK8_L (SOP, 8-Leads, Body 3x3mm, Pitch 0.65mm, IPC High Density)
footprint TI-DGK8_M (SOP, 8-Leads, Body 3x3mm, Pitch 0.65mm, IPC Low Density)
pins on every part: 4 V- (power), 8 V+ (power)
part A pins: 1 OUT A (out), 2 IN A- (in), 3 IN A+ (in)
part B pins: 5 IN B+ (in), 6 IN B- (in), 7 OUT B (out)

## OPA2356AIDGKTG4
designator U?
200 MHz GBW, CMOS Dual Operational Amplifier, 2.5 to 5.5 V, -40 to 125 degC, 8-pin SOP (DGK8), Green (RoHS & no Sb/Br); Manufacturer: Texas Instruments; PartNumber: OPA2356AIDGKTG4; 2nd Harmonic(dBc): 81; 3rd Harmonic(dBc): 93; @ MHz: 1; BW @ Acl(MHz): 450; Diff Gain(%): 0.02; Diff Phase(deg): 0.05; Io(Typ)(mA): 100; Iq per channel(Max)(mA): 14; Number of Channels: 2; Rail-Rail: Out; Settling Time (0.1%)(Typ)(ns): 30; Slew Rate(Typ)(V/us): 360; Sub Family: High Output Current Amplifier (>=50mA), High Speed Amplifier (>=50MHz), Low Supply Voltage Amplifier (<=2.7V); THD (Fc is 1 MHz)(Typ)(dB): -79; Vio(Max)(mV): 9; Vn at Flatband(Typ)(nV/rtHz): 5.8; Vs(Max)(V): 5.5; Vs(Min)(V): 2.5; DatasheetVersion: SBOS212A; PackageVersion: 4073329/E, 05/2006; PackageReference: DGK8; PackageDescription: 8-Pin Thin Small Outline, Body 3 x 3 mm, Pitch 0.65 mm; Supplier 1: Digi-Key; Supplier Part Number 1: OPA2356AIDGKTG4-ND; Supplier 2: Mouser; Supplier Part Number 2: 595-OPA2356AIDGKTG4; Acl, min stable gain(V/V): 1; Eco-Plan: Green (RoHS & no Sb/Br); Iib(Max)(nA): 0.05; Mounting Technology: Surface Mount; Code_JEDEC: MO-187; ComponentLink1Description: Manufacturer URL; ComponentLink1URL: http://www.ti.com/; ComponentLink2Description: Datasheet; ComponentLink2URL: http://www.ti.com/general/docs/lit/getliterature.tsp?genericPartNumber=OPA2356&fileType=pdf; ComponentLink3Description: Package Specification; ComponentLink3URL: http://www.ti.com/litv/pdf/mpds028d
footprint TI-DGK8_N (SOP, 8-Leads, Body 3x3mm, Pitch 0.65mm, IPC Medium Density)
footprint TI-DGK8_L (SOP, 8-Leads, Body 3x3mm, Pitch 0.65mm, IPC High Density)
footprint TI-DGK8_M (SOP, 8-Leads, Body 3x3mm, Pitch 0.65mm, IPC Low Density)
pins on every part: 4 V- (power), 8 V+ (power)
part A pins: 1 OUT A (out), 2 IN A- (in), 3 IN A+ (in)
part B pins: 5 IN B+ (in), 6 IN B- (in), 7 OUT B (out)

## OPA2356AIDR
designator U?
200 MHz GBW, CMOS Dual Operational Amplifier, 2.5 to 5.5 V, -40 to 125 degC, 8-pin SOIC (D8), Green (RoHS & no Sb/Br); Manufacturer: Texas Instruments; PartNumber: OPA2356AIDR; 2nd Harmonic(dBc): 81; 3rd Harmonic(dBc): 93; @ MHz: 1; BW @ Acl(MHz): 450; Diff Gain(%): 0.02; Diff Phase(deg): 0.05; Io(Typ)(mA): 100; Iq per channel(Max)(mA): 14; Number of Channels: 2; Rail-Rail: Out; Settling Time (0.1%)(Typ)(ns): 30; Slew Rate(Typ)(V/us): 360; Sub Family: High Output Current Amplifier (>=50mA), High Speed Amplifier (>=50MHz), Low Supply Voltage Amplifier (<=2.7V); THD (Fc is 1 MHz)(Typ)(dB): -79; Vio(Max)(mV): 9; Vn at Flatband(Typ)(nV/rtHz): 5.8; Vs(Max)(V): 5.5; Vs(Min)(V): 2.5; DatasheetVersion: SBOS212A; PackageVersion: 4040047-3/M, 06/2011; PackageReference: D8; PackageDescription: 8-Pin Plastic Small Outline, Body 4.9 x 3.9 mm, Pitch 1.27 mm; Supplier 1: Digi-Key; Supplier Part Number 1: 296-31703-2-ND; Supplier 2: Digi-Key; Supplier Part Number 2: 296-31703-1-ND; Supplier 3: Digi-Key; Supplier Part Number 3: 296-31703-6-ND; Supplier 4: Newark; Supplier Part Number 4: 75C4743; Supplier 5: Mouser; Supplier Part Number 5: 595-OPA2356AIDR; Acl, min stable gain(V/V): 1; Eco-Plan: Green (RoHS & no Sb/Br); Iib(Max)(nA): 0.05; Mounting Technology: Surface Mount; Code_JEDEC: MS-012; ComponentLink1Description: Manufacturer URL; ComponentLink1URL: http://www.ti.com/; ComponentLink2Description: Datasheet; ComponentLink2URL: http://www.ti.com/general/docs/lit/getliterature.tsp?genericPartNumber=OPA2356&fileType=pdf; ComponentLink3Description: Package Specification; ComponentLink3URL: http://www.ti.com/litv/pdf/msoi002j
footprint TI-D8_N (SOIC, 8-Leads, Body 4.9x3.9mm, Pitch 1.27mm, IPC Medium Density)
footprint TI-D8_L (SOIC, 8-Leads, Body 4.9x3.9mm, Pitch 1.27mm, IPC High Density)
footprint TI-D8_M (SOIC, 8-Leads, Body 4.9x3.9mm, Pitch 1.27mm, IPC Low Density)
pins on every part: 4 V- (power), 8 V+ (power)
part A pins: 1 OUT A (out), 2 IN A- (in), 3 IN A+ (in)
part B pins: 5 IN B+ (in), 6 IN B- (in), 7 OUT B (out)

## OPA2356AIDRG4
designator U?
200 MHz GBW, CMOS Dual Operational Amplifier, 2.5 to 5.5 V, -40 to 125 degC, 8-pin SOIC (D8), Green (RoHS & no Sb/Br); Manufacturer: Texas Instruments; PartNumber: OPA2356AIDRG4; 2nd Harmonic(dBc): 81; 3rd Harmonic(dBc): 93; @ MHz: 1; BW @ Acl(MHz): 450; Diff Gain(%): 0.02; Diff Phase(deg): 0.05; Iib(Max)(nA): 20000; Io(Typ)(mA): 100; Iq per channel(Max)(mA): 14; Number of Channels: 2; Rail-Rail: In, Out; Settling Time (0.1%)(Typ)(ns): 30; Slew Rate(Typ)(V/us): 360; Sub Family: High Output Current Amplifier (>=50mA), High Speed Amplifier (>=50MHz), Low Supply Voltage Amplifier (<=2.7V); THD (Fc is 1 MHz)(Typ)(dB): -79; Vio(Max)(mV): 9; Vn at Flatband(Typ)(nV/rtHz): 5.8; Vs(Max)(V): 5.5; Vs(Min)(V): 2.5; DatasheetVersion: SBOS212A; PackageVersion: 4040047-3/M, 06/2011; PackageReference: D8; PackageDescription: 8-Pin Plastic Small Outline, Body 4.9 x 3.9 mm, Pitch 1.27 mm; Supplier 1: Digi-Key; Supplier Part Number 1: OPA2356AIDRG4-ND; Supplier 2: Newark; Supplier Part Number 2: 85K1338; Supplier 3: Mouser; Supplier Part Number 3: 595-OPA2356AIDRG4; Acl, min stable gain(V/V): 1; Eco-Plan: Green (RoHS & no Sb/Br); Mounting Technology: Surface Mount; Code_JEDEC: MS-012; ComponentLink1Description: Manufacturer URL; ComponentLink1URL: http://www.ti.com/; ComponentLink2Description: Datasheet; ComponentLink2URL: http://www.ti.com/general/docs/lit/getliterature.tsp?genericPartNumber=OPA2356&fileType=pdf; ComponentLink3Description: Package Specification; ComponentLink3URL: http://www.ti.com/litv/pdf/msoi002j
footprint TI-D8_N (SOIC, 8-Leads, Body 4.9x3.9mm, Pitch 1.27mm, IPC Medium Density)
footprint TI-D8_L (SOIC, 8-Leads, Body 4.9x3.9mm, Pitch 1.27mm, IPC High Density)
footprint TI-D8_M (SOIC, 8-Leads, Body 4.9x3.9mm, Pitch 1.27mm, IPC Low Density)
pins on every part: 4 V- (power), 8 V+ (power)
part A pins: 1 OUT A (out), 2 IN A- (in), 3 IN A+ (in)
part B pins: 5 IN B+ (in), 6 IN B- (in), 7 OUT B (out)

## OPA2357AIDGSR
designator U?
250 MHz, Rail-to-Rail I/O, Dual CMOS Operational Amplifier with Shutdown, 2.5 to 5.5 V, -40 to 125 degC, 10-pin SOP (DGS10), Green (RoHS & no Sb/Br); Manufacturer: Texas Instruments; PartNumber: OPA2357AIDGSR; 2nd Harmonic(dBc): 75; 3rd Harmonic(dBc): 83; @ MHz: 1; BW @ Acl(MHz): 250; Diff Gain(%): 0.02; Diff Phase(deg): 0.09; Iib(Max)(nA): 0.05; Io(Typ)(mA): 100; Iq per channel(Max)(mA): 7.5; Number of Channels: 2; Rail-Rail: In, Out; Settling Time (0.1%)(Typ)(ns): 30; Slew Rate(Typ)(V/us): 150; Sub Family: High Output Current Amplifier (>=50mA), High Speed Amplifier (>=50MHz), Low Supply Voltage Amplifier (<=2.7V); THD (Fc is 1 MHz)(Typ)(dB): -74; Vio(Max)(mV): 8; Vn at Flatband(Typ)(nV/rtHz): 6.5; Vs(Max)(V): 5.5; Vs(Min)(V): 2.5; DatasheetVersion: SBOS235E; PackageVersion: 4073272/C, 02/2004; PackageReference: DGS10; PackageDescription: 10-Pin Plastic Small Outline, Body 3 x 3 mm, Pitch 0.5 mm; Supplier 1: Digi-Key; Supplier Part Number 1: 296-26261-2-ND; Supplier 2: Digi-Key; Supplier Part Number 2: 296-26261-1-ND; Supplier 3: Digi-Key; Supplier Part Number 3: 296-26261-6-ND; Supplier 4: Newark; Supplier Part Number 4: 75C4744; Supplier 5: Mouser; Supplier Part Number 5: 595-OPA2357AIDGSR; Acl, min stable gain(V/V): 1; Eco-Plan: Green (RoHS & no Sb/Br); Mounting Technology: Surface Mount; Code_JEDEC: MO-153; ComponentLink1Description: Manufacturer URL; ComponentLink1URL: http://www.ti.com/; ComponentLink2Description: Datasheet; ComponentLink2URL: http://www.ti.com/general/docs/lit/getliterature.tsp?genericPartNumber=OPA2357&fileType=pdf; ComponentLink3Description: Package Specification; ComponentLink3URL: http://www.ti.com/lit/ml/mpds035b/mpds035b.pdf
footprint TI-DGS10_N (SOP, 10-Leads, Body 3x3mm, Pitch 0.5mm, IPC Medium Density)
footprint TI-DGS10_L (SOP, 10-Leads, Body 3x3mm, Pitch 0.5mm, IPC High Density)
footprint TI-DGS10_M (SOP, 10-Leads, Body 3x3mm, Pitch 0.5mm, IPC Low Density)
pins on every part: 4 V- (power), 10 V+ (power)
part A pins: 1 OUT A (hiz), 2 IN A- (in), 3 IN A+ (in), 5 ENABLE A (in)
part B pins: 6 ENABLE B (in), 7 IN B+ (in), 8 IN B- (in), 9 OUT B (hiz)

## OPA2357AIDGSRG4
designator U?
250 MHz, Rail-to-Rail I/O, Dual CMOS Operational Amplifier with Shutdown, 2.5 to 5.5 V, -40 to 125 degC, 10-pin SOP (DGS10), Green (RoHS & no Sb/Br); Manufacturer: Texas Instruments; PartNumber: OPA2357AIDGSRG4; 2nd Harmonic(dBc): 75; 3rd Harmonic(dBc): 83; @ MHz: 1; BW @ Acl(MHz): 250; Diff Gain(%): 0.02; Diff Phase(deg): 0.09; Iib(Max)(nA): 0.05; Io(Typ)(mA): 100; Iq per channel(Max)(mA): 7.5; Number of Channels: 2; Rail-Rail: In, Out; Settling Time (0.1%)(Typ)(ns): 30; Slew Rate(Typ)(V/us): 150; Sub Family: High Output Current Amplifier (>=50mA), High Speed Amplifier (>=50MHz), Low Supply Voltage Amplifier (<=2.7V); THD (Fc is 1 MHz)(Typ)(dB): -74; Vio(Max)(mV): 8; Vn at Flatband(Typ)(nV/rtHz): 6.5; Vs(Max)(V): 5.5; Vs(Min)(V): 2.5; DatasheetVersion: SBOS235E; PackageVersion: 4073272/C, 02/2004; PackageReference: DGS10; PackageDescription: 10-Pin Plastic Small Outline, Body 3 x 3 mm, Pitch 0.5 mm; Supplier 1: Digi-Key; Supplier Part Number 1: OPA2357AIDGSRG4-ND; Supplier 2: Newark; Supplier Part Number 2: 58K5923; Supplier 3: Mouser; Supplier Part Number 3: 595-OPA2357AIDGSRG4; Acl, min stable gain(V/V): 1; Eco-Plan: Green (RoHS & no Sb/Br); Mounting Technology: Surface Mount; Code_JEDEC: MO-153; ComponentLink1Description: Manufacturer URL; ComponentLink1URL: http://www.ti.com/; ComponentLink2Description: Datasheet; ComponentLink2URL: http://www.ti.com/general/docs/lit/getliterature.tsp?genericPartNumber=OPA2357&fileType=pdf; ComponentLink3Description: Package Specification; ComponentLink3URL: http://www.ti.com/lit/ml/mpds035b/mpds035b.pdf
footprint TI-DGS10_N (SOP, 10-Leads, Body 3x3mm, Pitch 0.5mm, IPC Medium Density)
footprint TI-DGS10_L (SOP, 10-Leads, Body 3x3mm, Pitch 0.5mm, IPC High Density)
footprint TI-DGS10_M (SOP, 10-Leads, Body 3x3mm, Pitch 0.5mm, IPC Low Density)
pins on every part: 4 V- (power), 10 V+ (power)
part A pins: 1 OUT A (hiz), 2 IN A- (in), 3 IN A+ (in), 5 ENABLE A (in)
part B pins: 6 ENABLE B (in), 7 IN B+ (in), 8 IN B- (in), 9 OUT B (hiz)

## OPA2357AIDGST
designator U?
250 MHz, Rail-to-Rail I/O, Dual CMOS Operational Amplifier with Shutdown, 2.5 to 5.5 V, -40 to 125 degC, 10-pin SOP (DGS10), Green (RoHS & no Sb/Br); Manufacturer: Texas Instruments; PartNumber: OPA2357AIDGST; 2nd Harmonic(dBc): 75; 3rd Harmonic(dBc): 83; @ MHz: 1; BW @ Acl(MHz): 250; Diff Gain(%): 0.02; Diff Phase(deg): 0.09; Iib(Max)(nA): 0.05; Io(Typ)(mA): 100; Iq per channel(Max)(mA): 7.5; Number of Channels: 2; Rail-Rail: In, Out; Settling Time (0.1%)(Typ)(ns): 30; Slew Rate(Typ)(V/us): 150; Sub Family: High Output Current Amplifier (>=50mA), High Speed Amplifier (>=50MHz), Low Supply Voltage Amplifier (<=2.7V); THD (Fc is 1 MHz)(Typ)(dB): -74; Vio(Max)(mV): 8; Vn at Flatband(Typ)(nV/rtHz): 6.5; Vs(Max)(V): 5.5; Vs(Min)(V): 2.5; DatasheetVersion: SBOS235E; PackageVersion: 4073272/C, 02/2004; PackageReference: DGS10; PackageDescription: 10-Pin Plastic Small Outline, Body 3 x 3 mm, Pitch 0.5 mm; Supplier 1: Digi-Key; Supplier Part Number 1: 296-32184-2-ND; Supplier 2: Digi-Key; Supplier Part Number 2: 296-32184-1-ND; Supplier 3: Digi-Key; Supplier Part Number 3: 296-32184-6-ND; Supplier 4: Newark; Supplier Part Number 4: 75C4745; Supplier 5: Mouser; Supplier Part Number 5: 595-OPA2357AIDGST; Acl, min stable gain(V/V): 1; Eco-Plan: Green (RoHS & no Sb/Br); Mounting Technology: Surface Mount; Code_JEDEC: MO-153; ComponentLink1Description: Manufacturer URL; ComponentLink1URL: http://www.ti.com/; ComponentLink2Description: Datasheet; ComponentLink2URL: http://www.ti.com/general/docs/lit/getliterature.tsp?genericPartNumber=OPA2357&fileType=pdf; ComponentLink3Description: Package Specification; ComponentLink3URL: http://www.ti.com/lit/ml/mpds035b/mpds035b.pdf
footprint TI-DGS10_N (SOP, 10-Leads, Body 3x3mm, Pitch 0.5mm, IPC Medium Density)
footprint TI-DGS10_L (SOP, 10-Leads, Body 3x3mm, Pitch 0.5mm, IPC High Density)
footprint TI-DGS10_M (SOP, 10-Leads, Body 3x3mm, Pitch 0.5mm, IPC Low Density)
pins on every part: 4 V- (power), 10 V+ (power)
part A pins: 1 OUT A (hiz), 2 IN A- (in), 3 IN A+ (in), 5 ENABLE A (in)
part B pins: 6 ENABLE B (in), 7 IN B+ (in), 8 IN B- (in), 9 OUT B (hiz)

## OPA2357AIDGSTG4
designator U?
250 MHz, Rail-to-Rail I/O, Dual CMOS Operational Amplifier with Shutdown, 2.5 to 5.5 V, -40 to 125 degC, 10-pin SOP (DGS10), Green (RoHS & no Sb/Br); Manufacturer: Texas Instruments; PartNumber: OPA2357AIDGSTG4; 2nd Harmonic(dBc): 75; 3rd Harmonic(dBc): 83; @ MHz: 1; BW @ Acl(MHz): 250; Diff Gain(%): 0.02; Diff Phase(deg): 0.09; Iib(Max)(nA): 0.05; Io(Typ)(mA): 100; Iq per channel(Max)(mA): 7.5; Number of Channels: 2; Settling Time (0.1%)(Typ)(ns): 30; Slew Rate(Typ)(V/us): 150; Sub Family: High Output Current Amplifier (>=50mA), High Speed Amplifier (>=50MHz), Low Supply Voltage Amplifier (<=2.7V); THD (Fc is 1 MHz)(Typ)(dB): -74; Vio(Max)(mV): 8; Vn at Flatband(Typ)(nV/rtHz): 6.5; Vs(Max)(V): 5.5; Vs(Min)(V): 2.5; DatasheetVersion: SBOS235E; PackageVersion: 4073272/C, 02/2004; PackageReference: DGS10; PackageDescription: 10-Pin Plastic Small Outline, Body 3 x 3 mm, Pitch 0.5 mm; Supplier 1: Digi-Key; Supplier Part Number 1: OPA2357AIDGSTG4-ND; Supplier 2: Newark; Supplier Part Number 2: 66K3990; Supplier 3: Mouser; Supplier Part Number 3: 595-OPA2357AIDGSTG4; Acl, min stable gain(V/V): 1; Eco-Plan: Green (RoHS & no Sb/Br); Mounting Technology: Surface Mount; Code_JEDEC: MO-153; ComponentLink1Description: Manufacturer URL; ComponentLink1URL: http://www.ti.com/; ComponentLink2Description: Datasheet; ComponentLink2URL: http://www.ti.com/general/docs/lit/getliterature.tsp?genericPartNumber=OPA2357&fileType=pdf; ComponentLink3Description: Package Specification; ComponentLink3URL: http://www.ti.com/lit/ml/mpds035b/mpds035b.pdf
footprint TI-DGS10_N (SOP, 10-Leads, Body 3x3mm, Pitch 0.5mm, IPC Medium Density)
footprint TI-DGS10_L (SOP, 10-Leads, Body 3x3mm, Pitch 0.5mm, IPC High Density)
footprint TI-DGS10_M (SOP, 10-Leads, Body 3x3mm, Pitch 0.5mm, IPC Low Density)
pins on every part: 4 V- (power), 10 V+ (power)
part A pins: 1 OUT A (hiz), 2 IN A- (in), 3 IN A+ (in), 5 ENABLE A (in)
part B pins: 6 ENABLE B (in), 7 IN B+ (in), 8 IN B- (in), 9 OUT B (hiz)

## OPA2380AIDGKR
designator U?
High Speed Precision Transimpedance Amplifier, 2.7 to 5.5 V, -40 to 125 degC, 8-pin SOP (DGK8), Green (RoHS & no Sb/Br); Manufacturer: Texas Instruments; PartNumber: OPA2380AIDGKR; Iib(Max)(nA): 0.05; Iq per channel(Max)(mA): 8.8; Number of Channels: 2; Slew Rate(Typ)(V/us): 80; Sub Family: High Speed Amplifier (>=50MHz), Low Offset Voltage Amplifier (<=500uV), Low Supply Voltage Amplifier (<=2.7V); Vio(Max)(mV): 0.025; Vn at Flatband(Typ)(nV/rtHz): 3; Vs(Max)(V): 5.5; Vs(Min)(V): 2.7; DatasheetVersion: SBOS291G; PackageVersion: 4073329/E, 05/2006; PackageReference: DGK8; PackageDescription: 8-Pin Thin Small Outline, Body 3 x 3 mm, Pitch 0.65 mm; Supplier 1: Digi-Key; Supplier Part Number 1: OPA2380AIDGKR-ND; Supplier 2: Mouser; Supplier Part Number 2: 595-OPA2380AIDGKR; Eco-Plan: Green (RoHS & no Sb/Br); Mounting Technology: Surface Mount; Code_JEDEC: MO-187; ComponentLink1Description: Manufacturer URL; ComponentLink1URL: http://www.ti.com/; ComponentLink2Description: Datasheet; ComponentLink2URL: http://www.ti.com/general/docs/lit/getliterature.tsp?genericPartNumber=OPA2380&fileType=pdf; ComponentLink3Description: Package Specification; ComponentLink3URL: http://www.ti.com/litv/pdf/mpds028d
footprint TI-DGK8_N (SOP, 8-Leads, Body 3x3mm, Pitch 0.65mm, IPC Medium Density)
footprint TI-DGK8_L (SOP, 8-Leads, Body 3x3mm, Pitch 0.65mm, IPC High Density)
footprint TI-DGK8_M (SOP, 8-Leads, Body 3x3mm, Pitch 0.65mm, IPC Low Density)
pins on every part: 4 V- (power), 8 V+ (power)
part A pins: 1 OUT A (out), 2 IN A- (in), 3 IN A+ (in)
part B pins: 5 IN B+ (in), 6 IN B- (in), 7 OUT B (out)

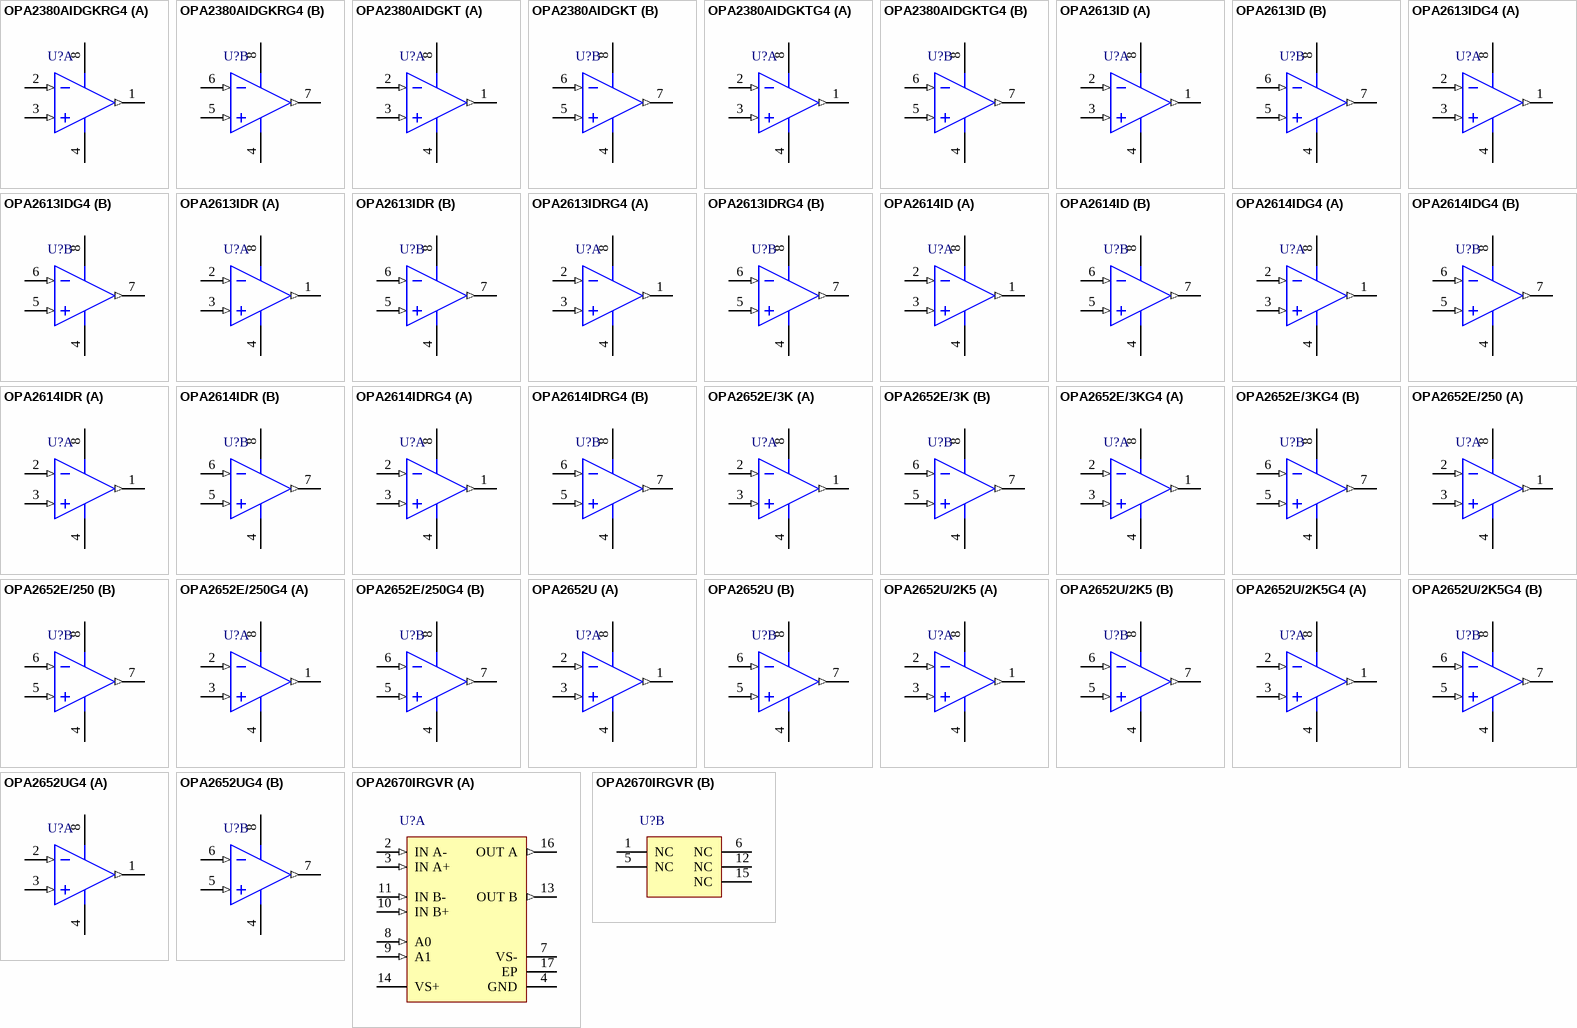
[diagram p8: symbols OPA2380AIDGKRG4 to OPA2670IRGVR]

## OPA2380AIDGKRG4
designator U?
High Speed Precision Transimpedance Amplifier, 2.7 to 5.5 V, -40 to 125 degC, 8-pin SOP (DGK8), Green (RoHS & no Sb/Br); Manufacturer: Texas Instruments; PartNumber: OPA2380AIDGKRG4; Iib(Max)(nA): 0.05; Iq per channel(Max)(mA): 8.8; Number of Channels: 2; Slew Rate(Typ)(V/us): 80; Sub Family: High Speed Amplifier (>=50MHz), Low Offset Voltage Amplifier (<=500uV), Low Supply Voltage Amplifier (<=2.7V); Vio(Max)(mV): 0.025; Vn at Flatband(Typ)(nV/rtHz): 3; Vs(Max)(V): 5.5; Vs(Min)(V): 2.7; DatasheetVersion: SBOS291G; PackageVersion: 4073329/E, 05/2006; PackageReference: DGK8; PackageDescription: 8-Pin Thin Small Outline, Body 3 x 3 mm, Pitch 0.65 mm; Supplier 1: Digi-Key; Supplier Part Number 1: OPA2380AIDGKRG4-ND; Supplier 2: Newark; Supplier Part Number 2: 24K4674; Supplier 3: Mouser; Supplier Part Number 3: 595-OPA2380AIDGKRG4; Eco-Plan: Green (RoHS & no Sb/Br); Mounting Technology: Surface Mount; Code_JEDEC: MO-187; ComponentLink1Description: Manufacturer URL; ComponentLink1URL: http://www.ti.com/; ComponentLink2Description: Datasheet; ComponentLink2URL: http://www.ti.com/general/docs/lit/getliterature.tsp?genericPartNumber=OPA2380&fileType=pdf; ComponentLink3Description: Package Specification; ComponentLink3URL: http://www.ti.com/litv/pdf/mpds028d
footprint TI-DGK8_N (SOP, 8-Leads, Body 3x3mm, Pitch 0.65mm, IPC Medium Density)
footprint TI-DGK8_L (SOP, 8-Leads, Body 3x3mm, Pitch 0.65mm, IPC High Density)
footprint TI-DGK8_M (SOP, 8-Leads, Body 3x3mm, Pitch 0.65mm, IPC Low Density)
pins on every part: 4 V- (power), 8 V+ (power)
part A pins: 1 OUT A (out), 2 IN A- (in), 3 IN A+ (in)
part B pins: 5 IN B+ (in), 6 IN B- (in), 7 OUT B (out)

## OPA2380AIDGKT
designator U?
High Speed Precision Transimpedance Amplifier, 2.7 to 5.5 V, -40 to 125 degC, 8-pin SOP (DGK8), Green (RoHS & no Sb/Br); Manufacturer: Texas Instruments; PartNumber: OPA2380AIDGKT; Iib(Max)(nA): 0.05; Iq per channel(Max)(mA): 8.8; Number of Channels: 2; Slew Rate(Typ)(V/us): 80; Sub Family: High Speed Amplifier (>=50MHz), Low Offset Voltage Amplifier (<=500uV), Low Supply Voltage Amplifier (<=2.7V); Vio(Max)(mV): 0.025; Vn at Flatband(Typ)(nV/rtHz): 3; Vs(Max)(V): 5.5; Vs(Min)(V): 2.7; DatasheetVersion: SBOS291G; PackageVersion: 4073329/E, 05/2006; PackageReference: DGK8; PackageDescription: 8-Pin Thin Small Outline, Body 3 x 3 mm, Pitch 0.65 mm; Supplier 1: Digi-Key; Supplier Part Number 1: 296-17046-2-ND; Supplier 2: Digi-Key; Supplier Part Number 2: 296-17046-1-ND; Supplier 3: Digi-Key; Supplier Part Number 3: 296-17046-6-ND; Supplier 4: Newark; Supplier Part Number 4: 10J9510; Supplier 5: Mouser; Supplier Part Number 5: 595-OPA2380AIDGKT; Eco-Plan: Green (RoHS & no Sb/Br); Mounting Technology: Surface Mount; Code_JEDEC: MO-187; ComponentLink1Description: Manufacturer URL; ComponentLink1URL: http://www.ti.com/; ComponentLink2Description: Datasheet; ComponentLink2URL: http://www.ti.com/general/docs/lit/getliterature.tsp?genericPartNumber=OPA2380&fileType=pdf; ComponentLink3Description: Package Specification; ComponentLink3URL: http://www.ti.com/litv/pdf/mpds028d
footprint TI-DGK8_N (SOP, 8-Leads, Body 3x3mm, Pitch 0.65mm, IPC Medium Density)
footprint TI-DGK8_L (SOP, 8-Leads, Body 3x3mm, Pitch 0.65mm, IPC High Density)
footprint TI-DGK8_M (SOP, 8-Leads, Body 3x3mm, Pitch 0.65mm, IPC Low Density)
pins on every part: 4 V- (power), 8 V+ (power)
part A pins: 1 OUT A (out), 2 IN A- (in), 3 IN A+ (in)
part B pins: 5 IN B+ (in), 6 IN B- (in), 7 OUT B (out)

## OPA2380AIDGKTG4
designator U?
High Speed Precision Transimpedance Amplifier, 2.7 to 5.5 V, -40 to 125 degC, 8-pin SOP (DGK8), Green (RoHS & no Sb/Br); Manufacturer: Texas Instruments; PartNumber: OPA2380AIDGKTG4; Iib(Max)(nA): 0.05; Iq per channel(Max)(mA): 8.8; Number of Channels: 2; Slew Rate(Typ)(V/us): 80; Sub Family: High Speed Amplifier (>=50MHz), Low Offset Voltage Amplifier (<=500uV), Low Supply Voltage Amplifier (<=2.7V); Vio(Max)(mV): 0.025; Vn at Flatband(Typ)(nV/rtHz): 3; Vs(Max)(V): 5.5; Vs(Min)(V): 2.7; DatasheetVersion: SBOS291G; PackageVersion: 4073329/E, 05/2006; PackageReference: DGK8; PackageDescription: 8-Pin Thin Small Outline, Body 3 x 3 mm, Pitch 0.65 mm; Supplier 1: Digi-Key; Supplier Part Number 1: OPA2380AIDGKTG4-ND; Supplier 2: Farnell; Supplier Part Number 2: 1180148; Supplier 3: Newark; Supplier Part Number 3: 26M1909; Supplier 4: Newark; Supplier Part Number 4: 80K2652; Supplier 5: Mouser; Supplier Part Number 5: 595-OPA2380AIDGKTG4; Eco-Plan: Green (RoHS & no Sb/Br); Mounting Technology: Surface Mount; Code_JEDEC: MO-187; ComponentLink1Description: Manufacturer URL; ComponentLink1URL: http://www.ti.com/; ComponentLink2Description: Datasheet; ComponentLink2URL: http://www.ti.com/general/docs/lit/getliterature.tsp?genericPartNumber=OPA2380&fileType=pdf; ComponentLink3Description: Package Specification; ComponentLink3URL: http://www.ti.com/litv/pdf/mpds028d
footprint TI-DGK8_N (SOP, 8-Leads, Body 3x3mm, Pitch 0.65mm, IPC Medium Density)
footprint TI-DGK8_L (SOP, 8-Leads, Body 3x3mm, Pitch 0.65mm, IPC High Density)
footprint TI-DGK8_M (SOP, 8-Leads, Body 3x3mm, Pitch 0.65mm, IPC Low Density)
pins on every part: 4 V- (power), 8 V+ (power)
part A pins: 1 OUT A (out), 2 IN A- (in), 3 IN A+ (in)
part B pins: 5 IN B+ (in), 6 IN B- (in), 7 OUT B (out)